# EAGLE library part CY8CKIT-059-KITPROG (library PatternAgents-Cypress)
CYPRESS CY8KIT-059 KITPROG MODULE FOOTPRINT
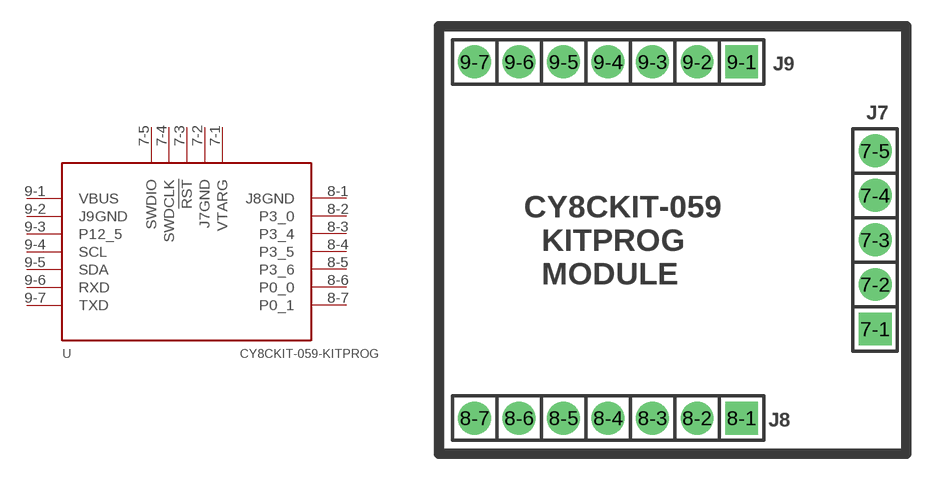
[diagram p31: symbol with the pads of CY8CKIT-059-KITPROG; footprint CY8CKIT-059-KITPROG]

Designator prefix -

## CY8CKIT-059-KITPROG  [CY8CKIT-059-KITPROG]
7-1  VTARG
7-2  J7GND
7-3  !RST
7-4  SWDCLK
7-5  SWDIO
8-1  J8GND
8-2  P3_0
8-3  P3_4
8-4  P3_5
8-5  P3_6
8-6  P0_0
8-7  P0_1
9-1  VBUS
9-2  J9GND
9-3  P12_5
9-4  SCL
9-5  SDA
9-6  RXD
9-7  TXD

## Footprint CY8CKIT-059-KITPROG (pad centres in mm)
CYPRESS CY8CKIT-059 KITPROG FOOTPRINT
drill 1.016 pad 1.88 square: 7-1 25.146,7.366; 8-1 17.526,2.286; 9-1 17.526,22.606
drill 1.016 pad 1.88: 7-2 25.146,9.906; 7-3 25.146,12.446; 7-4 25.146,14.986; 7-5 25.146,17.526; 8-2 14.986,2.286; 8-3 12.446,2.286; 8-4 9.906,2.286; 8-5 7.366,2.286; 8-6 4.826,2.286; 8-7 2.286,2.286; 9-2 14.986,22.606; 9-3 12.446,22.606; 9-4 9.906,22.606; 9-5 7.366,22.606; 9-6 4.826,22.606; 9-7 2.286,22.606